# EAGLE library part CH340G (library EurorackModularParts)
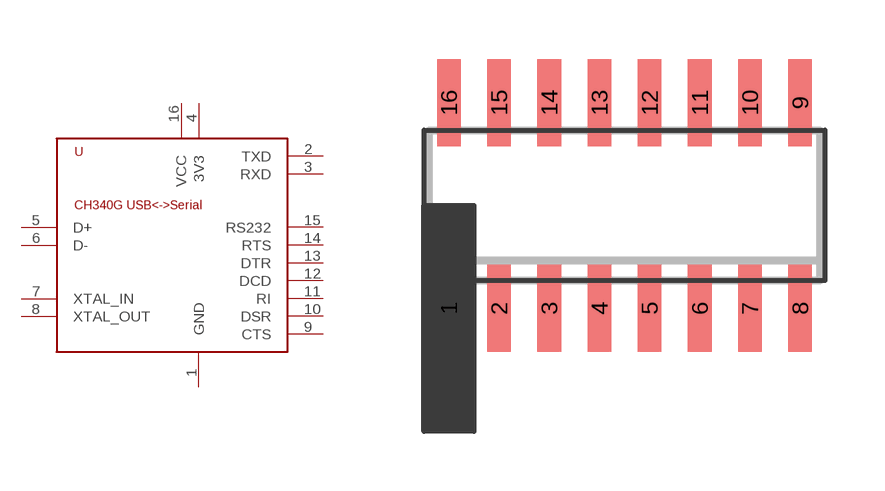
[diagram p28: symbol with the pads of SO16; footprint SO16]

Designator prefix -

## CH340G  [SO16]
1  GND
2  TXD
3  RXD
4  3V3
5  D+
6  D-
7  XTAL_IN
8  XTAL_OUT
9  CTS
10  DSR
11  RI
12  DCD
13  DTR
14  RTS
15  RS232
16  VCC

## Footprint SO16 (pad centres in mm)
smd 0.6 x 2.2: 1 -4.445,-2.6; 2 -3.175,-2.6; 3 -1.905,-2.6; 4 -0.635,-2.6; 5 0.635,-2.6; 6 1.905,-2.6; 7 3.175,-2.6; 8 4.445,-2.6; 9 4.445,2.6; 10 3.175,2.6; 11 1.905,2.6; 12 0.635,2.6; 13 -0.635,2.6; 14 -1.905,2.6; 15 -3.175,2.6; 16 -4.445,2.6